# EAGLE library part HEX-INVERTER (library logic)
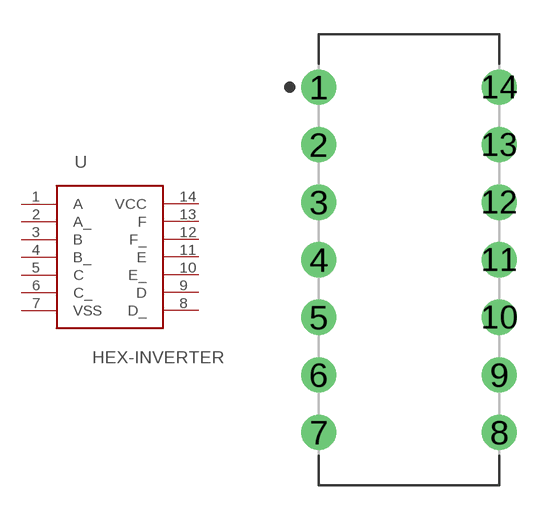
[diagram p2: symbol with the pads of DIP797W66P254L1954H508Q14B; footprint DIP797W66P254L1954H508Q14B]

Designator prefix -

## HEX-INVERTERTI-J0014A  [DIP797W66P254L1954H508Q14B]
1  A  in
2  A_  out
3  B  in
4  B_  out
5  C  in
6  C_  out
7  VSS  pwr
8  D_  out
9  D  in
10  E_  out
11  E  in
12  F_  out
13  F  in
14  VCC  pwr

## Footprint DIP797W66P254L1954H508Q14B (pad centres in mm)
14-DIP, 2.54 mm (0.10 in) pitch, 7.97 mm (0.31 in) span, 19.55 X 7.09 X 5.08 mm body 14-pin DIP package with 2.54 mm (0.10 in) pitch, 7.97 mm (0.31 in) span with body size 19.55 X 7.09 X 5.08 mm
drill 0.952 pad 1.552: 1 -3.985,7.62; 2 -3.985,5.08; 3 -3.985,2.54; 4 -3.985,0; 5 -3.985,-2.54; 6 -3.985,-5.08; 7 -3.985,-7.62; 8 3.985,-7.62; 9 3.985,-5.08; 10 3.985,-2.54; 11 3.985,0; 12 3.985,2.54; 13 3.985,5.08; 14 3.985,7.62